# Altium schematic symbol library passive.SchLib: 10 symbols
Pins are listed as number, name and electrical type; pins without a type are passive.

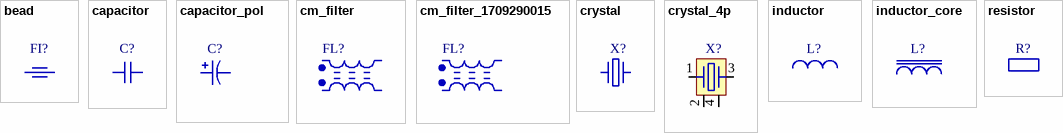
[diagram p0: symbols bead to resistor]

## bead
designator FI?
=Description
pins: 1, 2

## capacitor
designator C?
=Description
pins: 1, 2

## capacitor_pol
designator C?
=Description
pins: 1 A, 2 K

## cm_filter
designator FL?
=Description
pins: 1, 2, 3, 4

## cm_filter_1709290015
designator FL?
=Description
pins: 1, 2, 3, 4

## crystal
designator X?
=Description
pins: 1, 2

## crystal_4p
designator X?
=Description
pins: 1, 2, 3, 4

## inductor
designator L?
=Description
pins: 1, 2

## inductor_core
designator L?
=Description
pins: 1, 2

## resistor
designator R?
=Description
pins: 1, 2